# Altium integrated library FPGA DB Common Port-Plugin.IntLib: 9 symbols
Pins are listed as number, name and electrical type; pins without a type are passive.

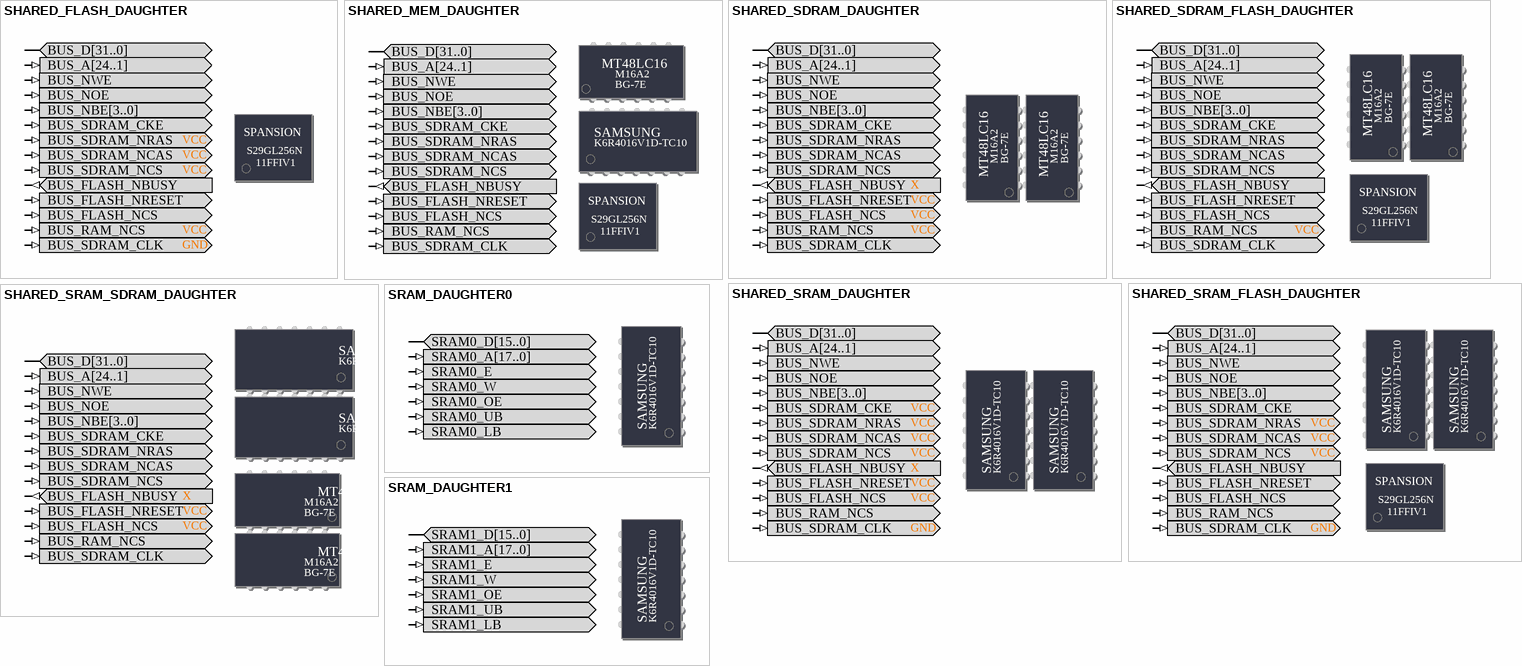
[diagram p0: symbols SHARED_FLASH_DAUGHTER to SRAM_DAUGHTER1]

## SHARED_FLASH_DAUGHTER
designator ?
Common-Bus Flash Memory - Daughterboard; PortComponent: True; Published: 14-May-2007; Publisher: Altium Limited; HelpURL: https://wiki.altium.com/display/ADOH/Accessing+Common-Bus+Memory+on+a+3-Connector+Daughter+Board
pins: BUS_A[24..1] (in), BUS_D[31..0] (io), BUS_FLASH_NBUSY (out), BUS_FLASH_NCS (in), BUS_FLASH_NRESET (in), BUS_NBE[3..0] (in), BUS_NOE (in), BUS_NWE (in), BUS_RAM_NCS (in), BUS_SDRAM_CKE (in), BUS_SDRAM_CLK (in), BUS_SDRAM_NCAS (in), BUS_SDRAM_NCS (in), BUS_SDRAM_NRAS (in)
text: SPANSION; VCC; S29GL256N; 11FFIV1; GND

## SHARED_MEM_DAUGHTER
designator ?
Shared Memory - Daughterboard; PortComponent: True; Published: 14-May-2007; Publisher: Altium Limited; HelpURL: https://wiki.altium.com/display/ADOH/Accessing+Common-Bus+Memory+on+a+3-Connector+Daughter+Board
pins: BUS_A[24..1] (in), BUS_D[31..0] (io), BUS_FLASH_NBUSY (out), BUS_FLASH_NCS (in), BUS_FLASH_NRESET (in), BUS_NBE[3..0] (in), BUS_NOE (in), BUS_NWE (in), BUS_RAM_NCS (in), BUS_SDRAM_CKE (in), BUS_SDRAM_CLK (in), BUS_SDRAM_NCAS (in), BUS_SDRAM_NCS (in), BUS_SDRAM_NRAS (in)
text: MT48LC16; M16A2; BG-7E; SAMSUNG; K6R4016V1D-TC10; SPANSION; S29GL256N; 11FFIV1

## SHARED_SDRAM_DAUGHTER
designator ?
Common-Bus Synchronous Dynamic RAM - Daughterboard; PortComponent: True; Published: 14-May-2007; Publisher: Altium Limited; HelpURL: https://wiki.altium.com/display/ADOH/Accessing+Common-Bus+Memory+on+a+3-Connector+Daughter+Board
pins: BUS_A[24..1] (in), BUS_D[31..0] (io), BUS_FLASH_NBUSY (out), BUS_FLASH_NCS (in), BUS_FLASH_NRESET (in), BUS_NBE[3..0] (in), BUS_NOE (in), BUS_NWE (in), BUS_RAM_NCS (in), BUS_SDRAM_CKE (in), BUS_SDRAM_CLK (in), BUS_SDRAM_NCAS (in), BUS_SDRAM_NCS (in), BUS_SDRAM_NRAS (in)
text: M16A2; BG-7E; MT48LC16; X; VCC

## SHARED_SDRAM_FLASH_DAUGHTER
designator ?
Common-Bus SDRAM Flash - Daughterboard; PortComponent: True; Published: 14-May-2007; Publisher: Altium Limited; HelpURL: https://wiki.altium.com/display/ADOH/Accessing+Common-Bus+Memory+on+a+3-Connector+Daughter+Board
pins: BUS_A[24..1] (in), BUS_D[31..0] (io), BUS_FLASH_NBUSY (out), BUS_FLASH_NCS (in), BUS_FLASH_NRESET (in), BUS_NBE[3..0] (in), BUS_NOE (in), BUS_NWE (in), BUS_RAM_NCS (in), BUS_SDRAM_CKE (in), BUS_SDRAM_CLK (in), BUS_SDRAM_NCAS (in), BUS_SDRAM_NCS (in), BUS_SDRAM_NRAS (in)
text: M16A2; BG-7E; MT48LC16; SPANSION; S29GL256N; 11FFIV1; VCC

## SHARED_SRAM_DAUGHTER
designator ?
Common-Bus Static RAM - Daughterboard; PortComponent: True; Published: 14-May-2007; Publisher: Altium Limited; HelpURL: https://wiki.altium.com/display/ADOH/Accessing+Common-Bus+Memory+on+a+3-Connector+Daughter+Board
pins: BUS_A[24..1] (in), BUS_D[31..0] (io), BUS_FLASH_NBUSY (out), BUS_FLASH_NCS (in), BUS_FLASH_NRESET (in), BUS_NBE[3..0] (in), BUS_NOE (in), BUS_NWE (in), BUS_RAM_NCS (in), BUS_SDRAM_CKE (in), BUS_SDRAM_CLK (in), BUS_SDRAM_NCAS (in), BUS_SDRAM_NCS (in), BUS_SDRAM_NRAS (in)
text: VCC; X; SAMSUNG; K6R4016V1D-TC10; GND

## SHARED_SRAM_FLASH_DAUGHTER
designator ?
Common-Bus SRAM Flash- Daughterboard; PortComponent: True; Published: 14-May-2007; Publisher: Altium Limited; HelpURL: https://wiki.altium.com/display/ADOH/Accessing+Common-Bus+Memory+on+a+3-Connector+Daughter+Board
pins: BUS_A[24..1] (in), BUS_D[31..0] (io), BUS_FLASH_NBUSY (out), BUS_FLASH_NCS (in), BUS_FLASH_NRESET (in), BUS_NBE[3..0] (in), BUS_NOE (in), BUS_NWE (in), BUS_RAM_NCS (in), BUS_SDRAM_CKE (in), BUS_SDRAM_CLK (in), BUS_SDRAM_NCAS (in), BUS_SDRAM_NCS (in), BUS_SDRAM_NRAS (in)
text: VCC; SAMSUNG; K6R4016V1D-TC10; SPANSION; S29GL256N; 11FFIV1; GND

## SHARED_SRAM_SDRAM_DAUGHTER
designator ?
Common-Bus SRAM SDRAM - Daughterboard; PortComponent: True; Published: 14-May-2007; Publisher: Altium Limited; HelpURL: https://wiki.altium.com/display/ADOH/Accessing+Common-Bus+Memory+on+a+3-Connector+Daughter+Board
pins: BUS_A[24..1] (in), BUS_D[31..0] (io), BUS_FLASH_NBUSY (out), BUS_FLASH_NCS (in), BUS_FLASH_NRESET (in), BUS_NBE[3..0] (in), BUS_NOE (in), BUS_NWE (in), BUS_RAM_NCS (in), BUS_SDRAM_CKE (in), BUS_SDRAM_CLK (in), BUS_SDRAM_NCAS (in), BUS_SDRAM_NCS (in), BUS_SDRAM_NRAS (in)
text: SAMSUNG; K6R4016V1D-TC10; X; MT48LC16; M16A2; VCC; BG-7E

## SRAM_DAUGHTER0
designator ?
Free Static RAM - Daughterboard; PortComponent: True; Published: 14-May-2007; Publisher: Altium Limited; HelpURL: https://wiki.altium.com/display/ADOH/Daughter+Board+Independent+SRAM
pins: SRAM0_A[17..0] (in), SRAM0_D[15..0] (io), SRAM0_E (in), SRAM0_LB (in), SRAM0_OE (in), SRAM0_UB (in), SRAM0_W (in)
text: SAMSUNG; K6R4016V1D-TC10

## SRAM_DAUGHTER1
designator ?
Free Static RAM - Daughterboard; PortComponent: True; Published: 14-May-2007; Publisher: Altium Limited; HelpURL: https://wiki.altium.com/display/ADOH/Daughter+Board+Independent+SRAM
pins: SRAM1_A[17..0] (in), SRAM1_D[15..0] (io), SRAM1_E (in), SRAM1_LB (in), SRAM1_OE (in), SRAM1_UB (in), SRAM1_W (in)
text: SAMSUNG; K6R4016V1D-TC10